# Altium schematic symbol library Schlib1.SchLib: 3 symbols
Pins are listed as number, name and electrical type; pins without a type are passive.

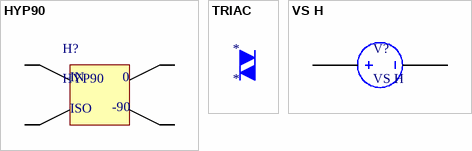
[diagram p0: symbols HYP90 to VS H]

## HYP90
designator H?
pins: 1 IN, 2 ISO, 3 -90, 4 0

## TRIAC
designator *

## VS H
designator V?
pins: 1 +, 1 -